# EAGLE library part SI7997DP (library r_cubed)
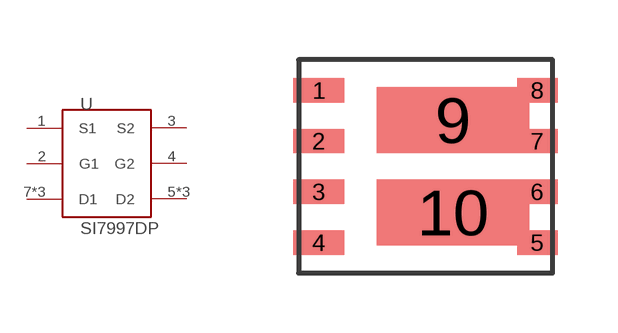
[diagram p2: symbol with the pads of POWERPAK; footprint POWERPAK]

Designator prefix -

## SI7997DP  [POWERPAK]
1  S1
2  G1
3  S2
4  G2
5  D2
6  D2
7  D1
8  D1
9  D1
10  D2

## Footprint POWERPAK (pad centres in mm)
smd 1.27 x 0.61: 1 0,2.54; 2 0,1.27; 3 0,0; 4 0,-1.27
smd 1.016 x 0.61: 5 5.461,-1.27; 6 5.461,0; 7 5.461,1.27; 8 5.461,2.54
smd 3.81 x 1.651: 9 3.353,1.791; 10 3.353,-0.521